# Altium schematic symbol library B3PS-VH(LF)(SN).SchLib: 1 symbol
Pins are listed as number, name and electrical type; pins without a type are passive.

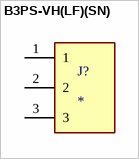
[diagram p0: symbol B3PS-VH(LF)(SN)]

## B3PS-VH(LF)(SN)
designator J?
MF: {'manufacturer': u'JST Sales'}; MP: B3PS-VH(LF)(SN); Package: None; Price: None; Value: *; Availability: Unavailable
footprint JST_B3PS-VH(LF)(SN)
pins: 1, 2, 3